# Altium footprint library Nexperia.PcbLib: 2 footprints
Each footprint in its own frame and in the unit in brackets; x right, y up, seen from the top. Pads: shape width x height; smd on the part's side, far side on the other; paste and mask are expansions set on the pad; w line width, h text height; cw(c..) or ccw(c..) is an arc to the next point about the centre after c.
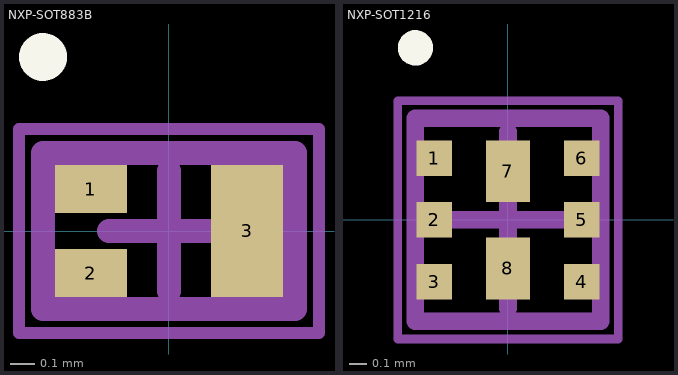
[diagram p0: the footprints below, top view; thin cyan lines are the x and y axes]

## NXP-SOT883B [mm] "SON, 3-Leads, Body 1.05x0.65mm, Pitch 0.35mm, IPC High Density"
height 0.4
pads (3):
  rect 0.3x0.2 smd paste+0: 1(-0.325,0.175)
  rect 0.3x0.2 smd: 2(-0.325,-0.175)
  rect 0.3x0.55 smd: 3(0.325,0)
Top Overlay:
  circle w0.1: c-0.525,0.725 r0.05
Top Solder:
  rectangle: -0.483,-0.076 -0.178,0.076
Mechanical 13:
  lines w0.1: -0.525,-0.325 0.525,-0.325 0.525,0.325 -0.525,0.325 -0.525,-0.325
Mechanical 15:
  lines w0.05: -0.625,-0.425 0.625,-0.425 0.625,0.425 -0.625,0.425 -0.625,-0.425
  lines w0.1: -0.25,0 0.25,0 ; 0,-0.25 0,0.25
3D body: height 0.4, standoff 0.04, extent -0.525,-0.325 0.525,0.325

## NXP-SOT1216 [mm] "SON, 6-Leads, Body 1.15x1.05mm, Pitch 0.35mm, 2X Thermal Pad 0.35x0.25mm, IPC High Density"
height 0.4
pads (8):
  rect 0.2x0.2 smd: 1(-0.417,0.35) 2(-0.417,0) 3(-0.417,-0.35) 4(0.418,-0.35) 5(0.418,0) 6(0.418,0.35)
  rect 0.25x0.35 smd: 7(0,0.275) 8(0,-0.275)
Top Overlay:
  circle w0.1: c-0.524,0.975 r0.05
Top Solder:
  rectangle: -0.521,-0.457 0.521,0.457
Mechanical 13:
  lines w0.1: -0.525,-0.575 -0.525,0.575 0.525,0.575 0.525,-0.575 -0.525,-0.575
Mechanical 15:
  lines w0.05: -0.625,-0.675 -0.625,0.675 0.625,0.675 0.625,-0.675 -0.625,-0.675
  lines w0.1: -0.5,0 0.5,0 ; 0,-0.5 0,0.5
3D body: height 0.4, standoff 0.04, extent -0.525,-0.575 0.525,0.575